# Altium schematic symbol library i2c_io_expander.SchLib: 79 symbols (part 3 of 3)
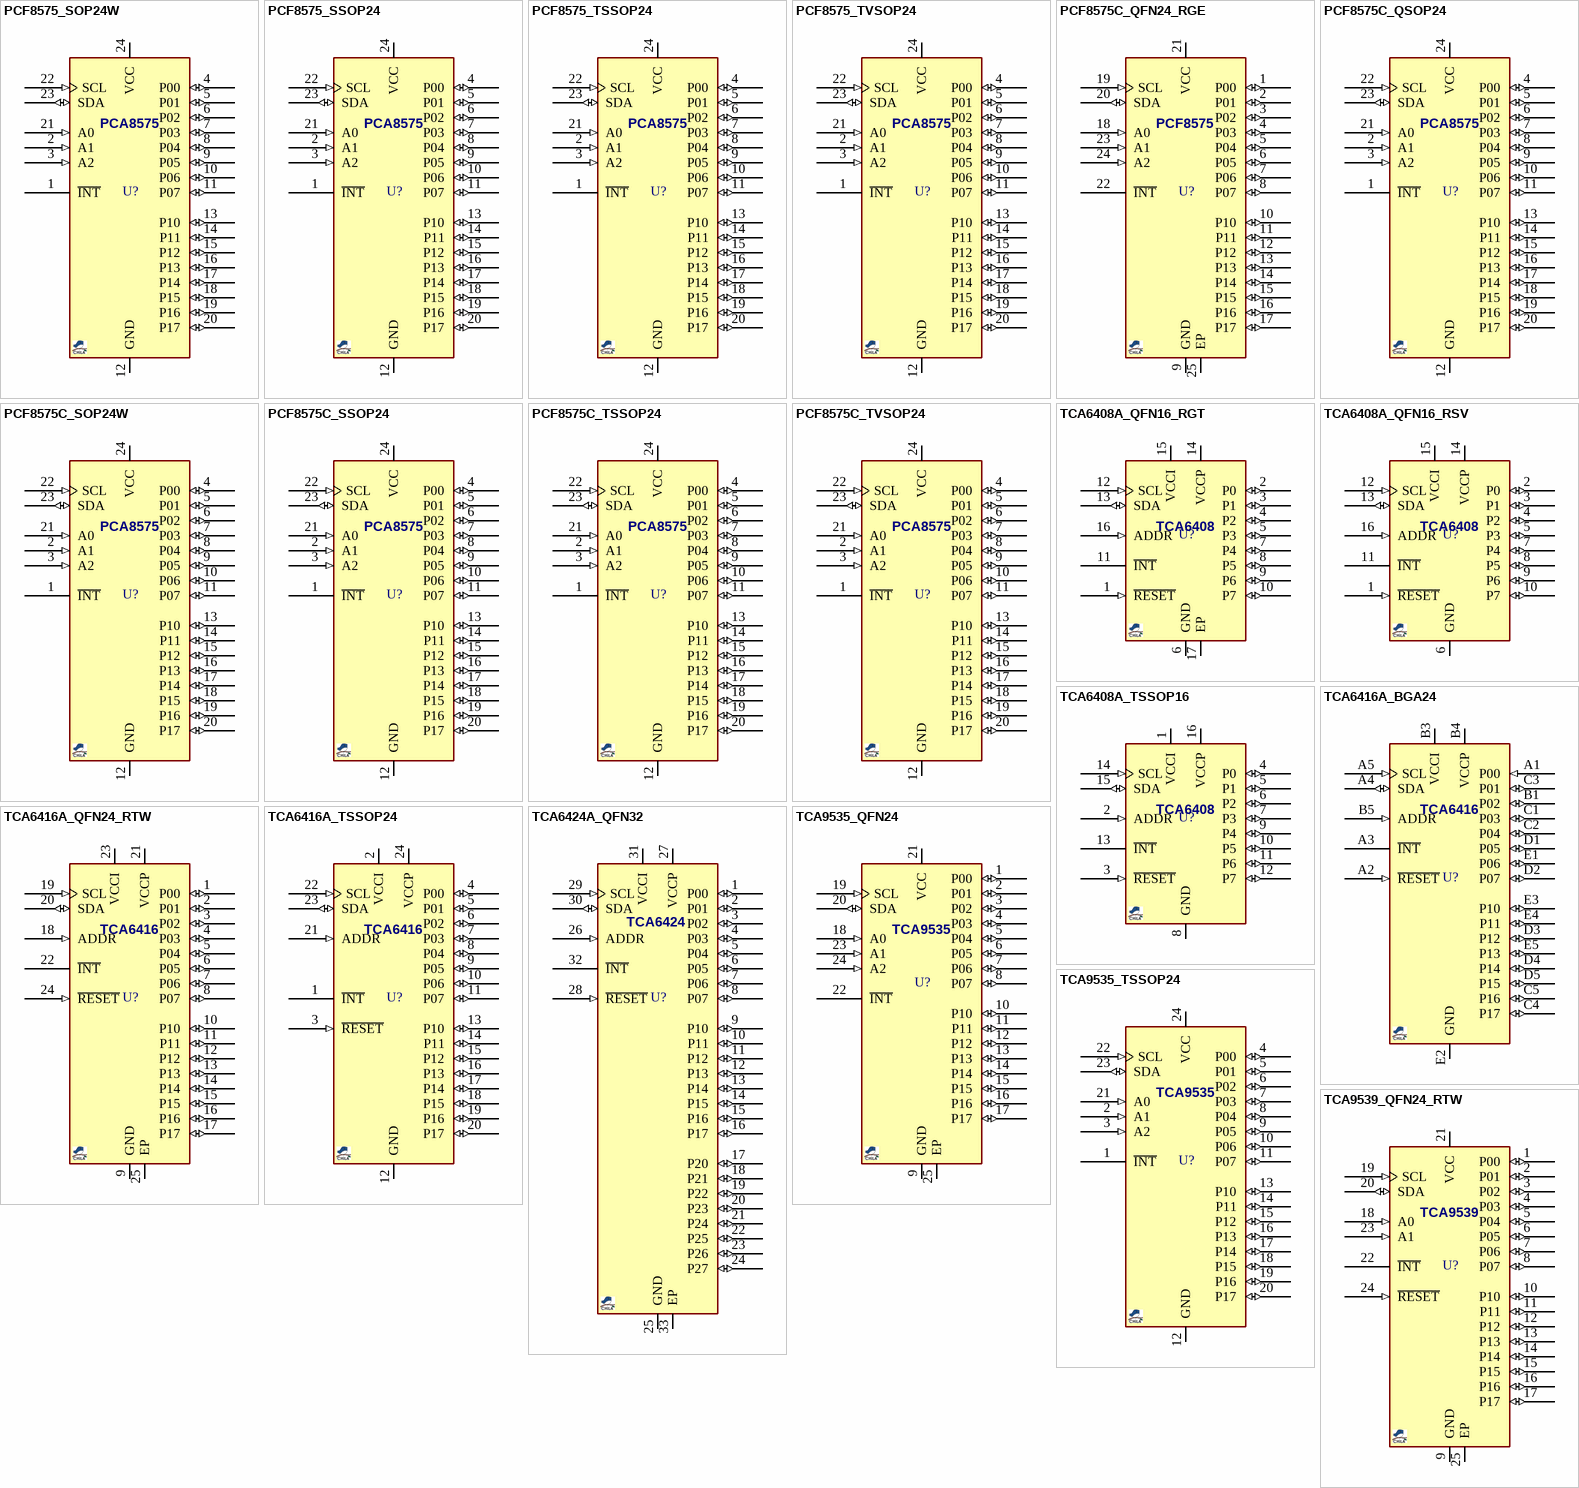
[diagram p5: symbols PCF8575_SOP24W to TCA9539_QFN24_RTW]

## TCA6408A_QFN16_RSV
designator U?, comment TCA6408  (value not drawn)
IC, I2C IO Expander, 8CH, 5V TOL, 400KHz; MANF: Texas Instruments; MANF_P#: TCA6408ARSV; PARAM2: 1.65~5.5VCC; PARAM: 8CH, 5V TOL, 400KHz, -40~85oC; VALUE: TCA6408
footprint QFN40_16_2618 (PUQFN-16 RSV 2.6X1.8mm, 0.4mm pitch)
pins: 1 ~{RESET} (in) "Active-low reset input. Connect to VCC  through a pullup resistor, if no active connection is used.", 2 P0 (io) "P-port input/output. (Push-pull design structure.) At power on, P0 is configured as an input.", 3 P1 (io) "P-port input/output. (Push-pull design structure.) At power on, P1 is configured as an input.", 4 P2 (io) "P-port input/output. (Push-pull design structure.) At power on, P2 is configured as an input.", 5 P3 (io) "P-port input/output. (Push-pull design structure.) At power on, P3 is configured as an input.", 6 GND (power) "Ground", 7 P4 (io) "P-port input/output. (Push-pull design structure.) At power on, P4 is configured as an input.", 8 P5 (io) "P-port input/output. (Push-pull design structure.) At power on, P5 is configured as an input.", 9 P6 (io) "P-port input/output. (Push-pull design structure.) At power on, P6 is configured as an input.", 10 P7 (io) "P-port input/output. (Push-pull design structure.) At power on, P7 is configured as an input.", 11 ~{INT} (oc) "Interrupt output. Connect to VCCI through a pullup resistor.", 12 SCL (in) "Serial clock bus. Connect to VCCI through a pullup resistor.", 13 SDA (io) "Serial data bus. Connect to VCCI through a pullup resistor.", 14 VCCP (power) "Supply voltage of TCA6408A for P port", 15 VCCI (power) "Supply voltage of I2C bus. Connect directly to the VCCI of the external I2C master. Provides voltage leveltranslation", 16 ADDR (in) "Address input. Connect directly to VCCI or ground"

## TCA6408A_TSSOP16
designator U?, comment TCA6408  (value not drawn)
IC, I2C IO Expander, 8CH, 5V TOL, 400KHz; MANF: Texas Instruments; MANF_P#: TCA6408APW; PARAM2: 1.65~5.5VCC; PARAM: 8CH, 5V TOL, 400KHz, -40~85oC; VALUE: TCA6408
footprint SOG65_16 (PW TSSOP (TI), MO-153-AB (JEDEC), 16Lead, pitch: 0.65mm, 5x4.4x1.2mm)
pins: 1 VCCI (power) "Supply voltage of I2C bus. Connect directly to the VCCI of the external I2C master. Provides voltage leveltranslation", 2 ADDR (in) "Address input. Connect directly to VCCI or ground", 3 ~{RESET} (in) "Active-low reset input. Connect to VCC  through a pullup resistor, if no active connection is used.", 4 P0 (io) "P-port input/output. Push-pull design structure.", 5 P1 (io) "P-port input/output. Push-pull design structure.", 6 P2 (io) "P-port input/output. Push-pull design structure.", 7 P3 (io) "P-port input/output. Push-pull design structure.", 8 GND (power) "Ground", 9 P4 (io) "P-port input/output. Push-pull design structure.", 10 P5 (io) "P-port input/output. Push-pull design structure.", 11 P6 (io) "P-port input/output. Push-pull design structure.", 12 P7 (io) "P-port input/output. Push-pull design structure.", 13 ~{INT} (oc) "Interrupt output. Connect to VCC through a pullup resistor.", 14 SCL (in) "Serial clock bus. Connect to VCC through a pullup resistor.", 15 SDA (io) "Serial data bus. Connect to VCC through a pullup resistor.", 16 VCCP (power) "Supply voltage of TCA6408A for P port"

## TCA6416A_BGA24
designator U?, comment TCA6416  (value not drawn)
IC, I2C IO Expander, 16CH, 5V TOL, 400KHz; MANF: Texas Instruments; MANF_P#: TCA6416AZQS; PARAM2: 1.65~5.5VCC; PARAM: 16CH, 5V TOL, 400KHz, -40~85oC; VALUE: TCA6416
footprint BGA50_24_3X3 (BGA, 24-Leads, ZQS24, Body 3x3mm, Pitch 0.5mm)
pins: A1 P00 (in) "P-port input/output. (Push-pull design structure). At power-on, P00 is configured as an input.", A2 ~{RESET} (in) "Active-low reset input. Connect to VCCI through a pullup resistor, if no active connection is used.", A3 ~{INT} (oc) "Interrupt output. Connect to VCCl or Vccp through a pullup resistor.", A4 SDA (io) "Serial data bus. Connect to VCCI through a pullup resistor.", A5 SCL (in) "Serial clock bus. Connect to VCCI through a pullup resistor.", B1 P02 (io) "P-port input/output. (Push-pull design structure). At power-on, P02 is configured as an input.", B3 VCCI (power) "Supply voltage of I2C bus. Connect directly to the VCC of the external I2C master. Provides voltage leveltranslation", B4 VCCP (power) "Supply voltage of TCA6416A for P port", B5 ADDR (in) "Address input. Connect directly to VCCPor ground", C1 P03 (io) "P-port input/output. (Push-pull design structure). At power-on, P03 is configured as an input.", C2 P04 (io) "P-port input/output. (Push-pull design structure). At power-on, P04 is configured as an input.", C3 P01 (io) "P-port input/output. (Push-pull design structure). At power-on, P01 is configured as an input.", C4 P17 (io) "P-port input/output. (Push-pull design structure). At power-on, P17 is configured as an input.", C5 P16 (io) "P-port input/output. (Push-pull design structure). At power-on, P16 is configured as an input.", D1 P05 (io) "P-port input/output. (Push-pull design structure). At power-on, P05 is configured as an input.", D2 P07 (io) "P-port input/output. (Push-pull design structure). At power-on, P07 is configured as an input.", D3 P12 (io) "P-port input/output. (Push-pull design structure). At power-on, P12 is configured as an input.", D4 P14 (io) "P-port input/output. (Push-pull design structure). At power-on, P14 is configured as an input.", D5 P15 (io) "P-port input/output. (Push-pull design structure). At power-on, P15 is configured as an input.", E1 P06 (io) "P-port input/output. (Push-pull design structure). At power-on, P06 is configured as an input.", E2 GND (power) "Ground", E3 P10 (io) "P-port input/output. (Push-pull design structure). At power-on, P10 is configured as an input.", E4 P11 (io) "P-port input/output. (Push-pull design structure). At power-on, P11 is configured as an input.", E5 P13 (io) "P-port input/output. (Push-pull design structure). At power-on, P13 is configured as an input."

## TCA6416A_QFN24_RTW
designator U?, comment TCA6416  (value not drawn)
IC, I2C IO Expander, 16CH, 5V TOL, 400KHz; MANF: Texas Instruments; MANF_P#: TCA6416ARTW; PARAM2: 1.65~5.5VCC; PARAM: 16CH, 5V TOL, 400KHz, -40~85oC; PRICE: 1.5$; VALUE: TCA6416
footprint QFN50_24T (MO-220 (JEDEC), RGE S-PQFP-N24 (TI), 4X4mm, 0.5mm, HVQFN24)
pins: 1 P00 (io) "P-port input/output. (Push-pull design structure). At power-on, P00 is configured as an input.", 2 P01 (io) "P-port input/output. (Push-pull design structure). At power-on, P01 is configured as an input.", 3 P02 (io) "P-port input/output. (Push-pull design structure). At power-on, P02 is configured as an input.", 4 P03 (io) "P-port input/output. (Push-pull design structure). At power-on, P03 is configured as an input.", 5 P04 (io) "P-port input/output. (Push-pull design structure). At power-on, P04 is configured as an input.", 6 P05 (io) "P-port input/output. (Push-pull design structure). At power-on, P05 is configured as an input.", 7 P06 (io) "P-port input/output. (Push-pull design structure). At power-on, P06 is configured as an input.", 8 P07 (io) "P-port input/output. (Push-pull design structure). At power-on, P07 is configured as an input.", 9 GND (power) "Ground", 10 P10 (io) "P-port input/output. (Push-pull design structure). At power-on, P10 is configured as an input.", 11 P11 (io) "P-port input/output. (Push-pull design structure). At power-on, P11 is configured as an input.", 12 P12 (io) "P-port input/output. (Push-pull design structure). At power-on, P12 is configured as an input.", 13 P13 (io) "P-port input/output. (Push-pull design structure). At power-on, P13 is configured as an input.", 14 P14 (io) "P-port input/output. (Push-pull design structure). At power-on, P14 is configured as an input.", 15 P15 (io) "P-port input/output. (Push-pull design structure). At power-on, P15 is configured as an input.", 16 P16 (io) "P-port input/output. (Push-pull design structure). At power-on, P16 is configured as an input.", 17 P17 (io) "P-port input/output. (Push-pull design structure). At power-on, P17 is configured as an input.", 18 ADDR (in) "Address input. Connect directly to VCCP or ground", 19 SCL (in) "Serial clock bus. Connect to VCCI through a pullup resistor.", 20 SDA (io) "Serial data bus. Connect to VCCI through a pullup resistor.", 21 VCCP (power) "Supply voltage of TCA6416A for P port", 22 ~{INT} (oc) "Interrupt output. Connect to VCCl or Vccp through a pullup resistor.", 23 VCCI (power) "Supply voltage of I2C bus. Connect directly to the VCC of the external I2C master. Provides voltage leveltranslation", 24 ~{RESET} (in) "Active-low reset input. Connect to VCCI through a pullup resistor, if no active connection is used.", 25 EP (power)

## TCA6416A_TSSOP24
designator U?, comment TCA6416  (value not drawn)
IC, I2C IO Expander, 16CH, 5V TOL, 400KHz; MANF: Texas Instruments; MANF_P#: TCA6416APW; PARAM2: 1.65~5.5VCC; PARAM: 16CH, 5V TOL, 400KHz, -40~85oC; VALUE: TCA6416
footprint SOG65_24 (PW TSSOP (TI), MO-153-AD (JEDEC), 24Lead, pitch: 0.65mm, 8x4.4x1.2mm)
pins: 1 ~{INT} (oc) "Interrupt output. Connect to VCC through a pullup resistor.", 2 VCCI (power) "Supply voltage of I2C bus. Connect directly to the VCC of the external I2C master. Provides voltage leveltranslation", 3 ~{RESET} (in) "Active-low reset input. Connect to VCCI through a pullup resistor, if no active connection is used.", 4 P00 (io) "P-port input/output. (Push-pull design structure). At power-on, P00 is configured as an input.", 5 P01 (io) "P-port input/output. (Push-pull design structure). At power-on, P01 is configured as an input.", 6 P02 (io) "P-port input/output. (Push-pull design structure). At power-on, P02 is configured as an input.", 7 P03 (io) "P-port input/output. (Push-pull design structure). At power-on, P03 is configured as an input.", 8 P04 (io) "P-port input/output. (Push-pull design structure). At power-on, P04 is configured as an input.", 9 P05 (io) "P-port input/output. (Push-pull design structure). At power-on, P05 is configured as an input.", 10 P06 (io) "P-port input/output. (Push-pull design structure). At power-on, P06 is configured as an input.", 11 P07 (io) "P-port input/output. (Push-pull design structure). At power-on, P07 is configured as an input.", 12 GND (power) "Ground", 13 P10 (io) "P-port input/output. (Push-pull design structure). At power-on, P10 is configured as an input.", 14 P11 (io) "P-port input/output. (Push-pull design structure). At power-on, P11 is configured as an input.", 15 P12 (io) "P-port input/output. (Push-pull design structure). At power-on, P12 is configured as an input.", 16 P13 (io) "P-port input/output. (Push-pull design structure). At power-on, P13 is configured as an input.", 17 P14 (io) "P-port input/output. (Push-pull design structure). At power-on, P14 is configured as an input.", 18 P15 (io) "P-port input/output. (Push-pull design structure). At power-on, P15 is configured as an input.", 19 P16 (io) "P-port input/output. (Push-pull design structure). At power-on, P16 is configured as an input.", 20 P17 (io) "P-port input/output. (Push-pull design structure). At power-on, P17 is configured as an input.", 21 ADDR (in) "Address input. Connect directly to VCC or ground.", 22 SCL (in) "Serial clock bus. Connect to VCC through a pullup resistor.", 23 SDA (io) "Serial data bus. Connect to VCC through a pullup resistor.", 24 VCCP (power) "Supply voltage of TCA6416A for P port"

## TCA6424A_QFN32
designator U?, comment TCA6424  (value not drawn)
IC, I2C IO Expander, 24CH, 5V TOL, 400KHz; MANF: Texas Instruments; MANF_P#: TCA6424ARGJ; PARAM2: 1.65~5.5VCC; PARAM: 24CH, 5V TOL, 400KHz, -40~85oC; VALUE: TCA6424
footprint QFN50_32T (QFN, 32, 5X5mm, 0.5mm)
pins: 1 P00 (io) "P-port input/output (push-pull design structure). At power on, P00 is configured as an input.", 2 P01 (io) "P-port input/output (push-pull design structure). At power on, P01 is configured as an input.", 3 P02 (io) "P-port input/output (push-pull design structure). At power on, P02 is configured as an input.", 4 P03 (io) "P-port input/output (push-pull design structure). At power on, P03 is configured as an input.", 5 P04 (io) "P-port input/output (push-pull design structure). At power on, P04 is configured as an input.", 6 P05 (io) "P-port input/output (push-pull design structure). At power on, P05 is configured as an input.", 7 P06 (io) "P-port input/output (push-pull design structure). At power on, P06 is configured as an input.", 8 P07 (io) "P-port input/output (push-pull design structure). At power on, P07 is configured as an input.", 9 P10 (io) "P-port input/output (push-pull design structure). At power on, P10 is configured as an input.", 10 P11 (io) "P-port input/output (push-pull design structure). At power on, P11 is configured as an input.", 11 P12 (io) "P-port input/output (push-pull design structure). At power on, P12 is configured as an input.", 12 P13 (io) "P-port input/output (push-pull design structure). At power on, P13 is configured as an input.", 13 P14 (io) "P-port input/output (push-pull design structure). At power on, P14 is configured as an input.", 14 P15 (io) "P-port input/output (push-pull design structure). At power on, P15 is configured as an input.", 15 P16 (io) "P-port input/output (push-pull design structure). At power on, P16 is configured as an input.", 16 P17 (io) "P-port input/output (push-pull design structure). At power on, P17 is configured as an input.", 17 P20 (io) "P-port input/output (push-pull design structure). At power on, P20 is configured as an input.", 18 P21 (io) "P-port input/output (push-pull design structure). At power on, P21 is configured as an input.", 19 P22 (io) "P-port input/output (push-pull design structure). At power on, P22 is configured as an input.", 20 P23 (io) "P-port input/output (push-pull design structure). At power on, P23 is configured as an input.", 21 P24 (io) "P-port input/output (push-pull design structure). At power on, P24 is configured as an input.", 22 P25 (io) "P-port input/output (push-pull design structure). At power on, P25 is configured as an input.", 23 P26 (io) "P-port input/output (push-pull design structure). At power on, P26 is configured as an input.", 24 P27 (io) "P-port input/output (push-pull design structure). At power on, P27 is configured as an input.", 25 GND (power) "Ground", 26 ADDR (in) "Address input. Connect directly to VCCP or ground.", 27 VCCP (power) "Supply voltage of TCA6424A for P port", 28 ~{RESET} (in) "Active-low reset input. Connect to VCCI  through a pullup resistor, if no active connection is used.", 29 SCL (in) "Serial clock bus. Connect to VCCI through a pullup resistor.", 30 SDA (io) "Serial data bus. Connect to VCCI through a pullup resistor.", 31 VCCI (power) "Supply voltage of I2C bus. Connect directly to the VCC of the external I2C master. Provides voltage-level translation.", 32 ~{INT} (oc) "Interrupt output. Connect to VCCI through a pullup resistor.", 33 EP "Exposed thermal pad"

## TCA9535_QFN24
designator U?, comment TCA9535  (value not drawn)
IC, I2C IO Expander, 16CH, 5V TOL, 400KHz; MANF: Texas Instruments; MANF_P#: TCA9535RTW; PARAM2: 1.65~5.5VCC; PARAM: 16CH, 5V TOL, 400KHz, -40~85oC; VALUE: TCA9535
footprint QFN50_24T (MO-220 (JEDEC), RGE S-PQFP-N24 (TI), 4X4mm, 0.5mm, HVQFN24)
pins: 1 P00 (io) "P-port input/output. Push-pull design structure.", 2 P01 (io) "P-port input/output. Push-pull design structure.", 3 P02 (io) "P-port input/output. Push-pull design structure.", 4 P03 (io) "P-port input/output. Push-pull design structure.", 5 P04 (io) "P-port input/output. Push-pull design structure.", 6 P05 (io) "P-port input/output. Push-pull design structure.", 7 P06 (io) "P-port input/output. Push-pull design structure.", 8 P07 (io) "P-port input/output. Push-pull design structure.", 9 GND (power) "Ground", 10 P10 (io) "P-port input/output. Push-pull design structure.", 11 P11 (io) "P-port input/output. Push-pull design structure.", 12 P12 (io) "P-port input/output. Push-pull design structure.", 13 P13 (io) "P-port input/output. Push-pull design structure.", 14 P14 (io) "P-port input/output. Push-pull design structure.", 15 P15 (io) "P-port input/output. Push-pull design structure.", 16 P16 (io) "P-port input/output. Push-pull design structure.", 17 P17 (io) "P-port input/output. Push-pull design structure.", 18 A0 (in) "Address input. Connect directly to VCC or ground.", 19 SCL (in) "Serial clock bus. Connect to VCC through a pullup resistor.", 20 SDA (io) "Serial data bus. Connect to VCC through a pullup resistor.", 21 VCC (power) "Supply voltage", 22 ~{INT} (oc) "Interrupt output. Connect to VCC through a pullup resistor.", 23 A1 (in) "Address input. Connect directly to VCC or ground.", 24 A2 (in) "Active-low reset input. Connect to VCC  through a pullup resistor, if no active connection is used.", 25 EP "Exposed thermal pad"

## TCA9535_TSSOP24
designator U?, comment TCA9535  (value not drawn)
IC, I2C IO Expander, 16CH, 5V TOL, 400KHz; MANF: Texas Instruments; MANF_P#: TCA9535PW; PARAM2: 1.65~5.5VCC; PARAM: 16CH, 5V TOL, 400KHz, -40~85oC; VALUE: TCA9535
footprint SOG65_24 (PW TSSOP (TI), MO-153-AD (JEDEC), 24Lead, pitch: 0.65mm, 8x4.4x1.2mm)
pins: 1 ~{INT} (oc) "Interrupt output. Connect to VCC through a pullup resistor.", 2 A1 (in) "Address input. Connect directly to VCC or ground.", 3 A2 (in) "Active-low reset input. Connect to VCC  through a pullup resistor, if no active connection is used.", 4 P00 (io) "P-port input/output. Push-pull design structure.", 5 P01 (io) "P-port input/output. Push-pull design structure.", 6 P02 (io) "P-port input/output. Push-pull design structure.", 7 P03 (io) "P-port input/output. Push-pull design structure.", 8 P04 (io) "P-port input/output. Push-pull design structure.", 9 P05 (io) "P-port input/output. Push-pull design structure.", 10 P06 (io) "P-port input/output. Push-pull design structure.", 11 P07 (io) "P-port input/output. Push-pull design structure.", 12 GND (power) "Ground", 13 P10 (io) "P-port input/output. Push-pull design structure.", 14 P11 (io) "P-port input/output. Push-pull design structure.", 15 P12 (io) "P-port input/output. Push-pull design structure.", 16 P13 (io) "P-port input/output. Push-pull design structure.", 17 P14 (io) "P-port input/output. Push-pull design structure.", 18 P15 (io) "P-port input/output. Push-pull design structure.", 19 P16 (io) "P-port input/output. Push-pull design structure.", 20 P17 (io) "P-port input/output. Push-pull design structure.", 21 A0 (in) "Address input. Connect directly to VCC or ground.", 22 SCL (in) "Serial clock bus. Connect to VCC through a pullup resistor.", 23 SDA (io) "Serial data bus. Connect to VCC through a pullup resistor.", 24 VCC (power) "Supply voltage"

## TCA9539_QFN24_RTW
designator U?, comment TCA9539  (value not drawn)
IC, I2C IO Expander, 16CH, 5V TOL, 400KHz; MANF: Texas Instruments; MANF_P#: TCA9539RTW; PARAM2: 1.65~5.5VCC; PARAM: 16CH, 5V TOL, 400KHz, -40~85oC; VALUE: TCA9539
footprint QFN50_24T (MO-220 (JEDEC), RGE S-PQFP-N24 (TI), 4X4mm, 0.5mm, HVQFN24)
pins: 1 P00 (io) "P-port input/output. Push-pull design structure.", 2 P01 (io) "P-port input/output. Push-pull design structure.", 3 P02 (io) "P-port input/output. Push-pull design structure.", 4 P03 (io) "P-port input/output. Push-pull design structure.", 5 P04 (io) "P-port input/output. Push-pull design structure.", 6 P05 (io) "P-port input/output. Push-pull design structure.", 7 P06 (io) "P-port input/output. Push-pull design structure.", 8 P07 (io) "P-port input/output. Push-pull design structure.", 9 GND (power) "Ground", 10 P10 (io) "P-port input/output. Push-pull design structure.", 11 P11 (io) "P-port input/output. Push-pull design structure.", 12 P12 (io) "P-port input/output. Push-pull design structure.", 13 P13 (io) "P-port input/output. Push-pull design structure.", 14 P14 (io) "P-port input/output. Push-pull design structure.", 15 P15 (io) "P-port input/output. Push-pull design structure.", 16 P16 (io) "P-port input/output. Push-pull design structure.", 17 P17 (io) "P-port input/output. Push-pull design structure.", 18 A0 (in) "Address input. Connect directly to VCC or ground.", 19 SCL (in) "Serial clock bus. Connect to VCC through a pullup resistor.", 20 SDA (io) "Serial data bus. Connect to VCC through a pullup resistor.", 21 VCC (power) "Supply voltage", 22 ~{INT} (oc) "Interrupt output. Connect to VCC through a pullup resistor.", 23 A1 (in) "Address input. Connect directly to VCC or ground.", 24 ~{RESET} (in) "Active-low reset input. Connect to VCC  through a pullup resistor, if no active connection is used.", 25 EP "Exposed thermal pad"

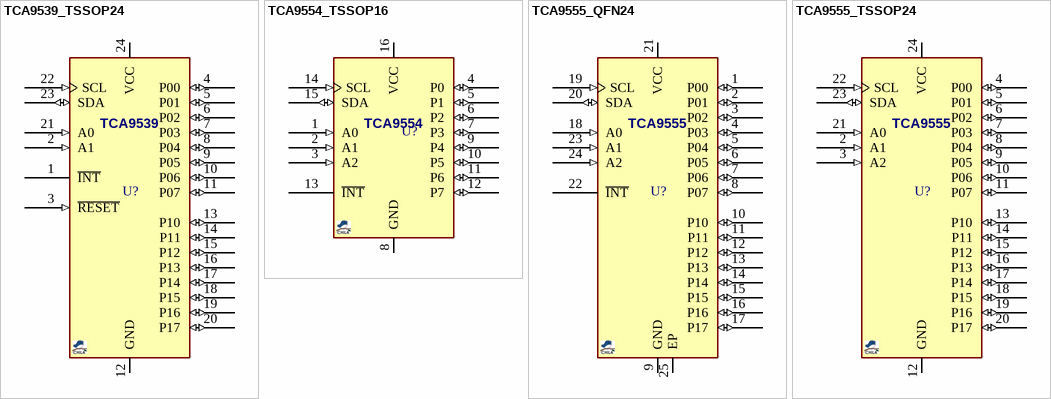
[diagram p3: symbols TCA9539_TSSOP24 to TCA9555_TSSOP24]

## TCA9539_TSSOP24
designator U?, comment TCA9539  (value not drawn)
IC, I2C IO Expander, 16CH, 5V TOL, 400KHz; MANF: Texas Instruments; MANF_P#: TCA9539PW; PARAM2: 1.65~5.5VCC; PARAM: 16CH, 5V TOL, 400KHz, -40~85oC; VALUE: TCA9539
footprint SOG65_24 (PW TSSOP (TI), MO-153-AD (JEDEC), 24Lead, pitch: 0.65mm, 8x4.4x1.2mm)
pins: 1 ~{INT} (oc) "Interrupt output. Connect to VCC through a pullup resistor.", 2 A1 (in) "Address input. Connect directly to VCC or ground.", 3 ~{RESET} (in) "Active-low reset input. Connect to VCC  through a pullup resistor, if no active connection is used.", 4 P00 (io) "P-port input/output. Push-pull design structure.", 5 P01 (io) "P-port input/output. Push-pull design structure.", 6 P02 (io) "P-port input/output. Push-pull design structure.", 7 P03 (io) "P-port input/output. Push-pull design structure.", 8 P04 (io) "P-port input/output. Push-pull design structure.", 9 P05 (io) "P-port input/output. Push-pull design structure.", 10 P06 (io) "P-port input/output. Push-pull design structure.", 11 P07 (io) "P-port input/output. Push-pull design structure.", 12 GND (power) "Ground", 13 P10 (io) "P-port input/output. Push-pull design structure.", 14 P11 (io) "P-port input/output. Push-pull design structure.", 15 P12 (io) "P-port input/output. Push-pull design structure.", 16 P13 (io) "P-port input/output. Push-pull design structure.", 17 P14 (io) "P-port input/output. Push-pull design structure.", 18 P15 (io) "P-port input/output. Push-pull design structure.", 19 P16 (io) "P-port input/output. Push-pull design structure.", 20 P17 (io) "P-port input/output. Push-pull design structure.", 21 A0 (in) "Address input. Connect directly to VCC or ground.", 22 SCL (in) "Serial clock bus. Connect to VCC through a pullup resistor.", 23 SDA (io) "Serial data bus. Connect to VCC through a pullup resistor.", 24 VCC (power) "Supply voltage"

## TCA9554_TSSOP16
designator U?, comment TCA9554  (value not drawn)
IC, I2C IO Expander, 8CH, 5V TOL, 400KHz; MANF: Texas Instruments; MANF_P#: TCA9554PW; PARAM2: 1.65~5.5VCC; PARAM: 8CH, 5V TOL, 400KHz, -40~85oC; VALUE: TCA9554
footprint SOG65_16 (PW TSSOP (TI), MO-153-AB (JEDEC), 16Lead, pitch: 0.65mm, 5x4.4x1.2mm)
pins: 1 A0 (in) "Address input. Connect directly to VCC or ground.", 2 A1 (in) "Address input. Connect directly to VCC or ground.", 3 A2 (in) "Address input. Connect directly to VCC or ground.", 4 P0 (io) "P-port input/output. Push-pull design structure.", 5 P1 (io) "P-port input/output. Push-pull design structure.", 6 P2 (io) "P-port input/output. Push-pull design structure.", 7 P3 (io) "P-port input/output. Push-pull design structure.", 8 GND (power) "Ground", 9 P4 (io) "P-port input/output. Push-pull design structure.", 10 P5 (io) "P-port input/output. Push-pull design structure.", 11 P6 (io) "P-port input/output. Push-pull design structure.", 12 P7 (io) "P-port input/output. Push-pull design structure.", 13 ~{INT} (oc) "Interrupt output. Connect to VCC through a pullup resistor.", 14 SCL (in) "Serial clock bus. Connect to VCC through a pullup resistor.", 15 SDA (io) "Serial data bus. Connect to VCC through a pullup resistor.", 16 VCC (power) "Supply voltage"

## TCA9555_QFN24
designator U?, comment TCA9555  (value not drawn)
IC, I2C IO Expander, 8CH, 5V TOL, 400KHz; MANF: Texas Instruments; MANF_P#: TCA9555RTW; PARAM2: 1.65~5.5VCC; PARAM: 16CH, 5V TOL, 400KHz, -40~85oC; VALUE: TCA9555
footprint QFN50_24T (MO-220 (JEDEC), RGE S-PQFP-N24 (TI), 4X4mm, 0.5mm, HVQFN24)
pins: 1 P00 (io) "P-port input/output. Push-pull design structure.", 2 P01 (io) "P-port input/output. Push-pull design structure.", 3 P02 (io) "P-port input/output. Push-pull design structure.", 4 P03 (io) "P-port input/output. Push-pull design structure.", 5 P04 (io) "P-port input/output. Push-pull design structure.", 6 P05 (io) "P-port input/output. Push-pull design structure.", 7 P06 (io) "P-port input/output. Push-pull design structure.", 8 P07 (io) "P-port input/output. Push-pull design structure.", 9 GND (power) "Ground", 10 P10 (io) "P-port input/output. Push-pull design structure.", 11 P11 (io) "P-port input/output. Push-pull design structure.", 12 P12 (io) "P-port input/output. Push-pull design structure.", 13 P13 (io) "P-port input/output. Push-pull design structure.", 14 P14 (io) "P-port input/output. Push-pull design structure.", 15 P15 (io) "P-port input/output. Push-pull design structure.", 16 P16 (io) "P-port input/output. Push-pull design structure.", 17 P17 (io) "P-port input/output. Push-pull design structure.", 18 A0 (in) "Address input 0. Connect directly to VCC or ground.", 19 SCL (in) "Serial clock bus. Connect to VCC through a pullup resistor.", 20 SDA (io) "Serial data bus. Connect to VCC through a pullup resistor.", 21 VCC (power) "Supply voltage", 22 ~{INT} (oc) "Interrupt output. Connect to VCC through a pullup resistor.", 23 A1 (in) "Address input 1. Connect directly to VCC or ground.", 24 A2 (in) "Address input 2. Connect directly to VCC or ground.", 25 EP "Exposed thermal pad"

## TCA9555_TSSOP24
designator U?, comment TCA9555  (value not drawn)
IC, I2C IO Expander, 8CH, 5V TOL, 400KHz; MANF: Texas Instruments; MANF_P#: TCA9555PW; PARAM2: 1.65~5.5VCC; PARAM: 16CH, 5V TOL, 400KHz, -40~85oC; VALUE: TCA9555
footprint SOG65_24 (PW TSSOP (TI), MO-153-AD (JEDEC), 24Lead, pitch: 0.65mm, 8x4.4x1.2mm)
pins: 2 A1 (in) "Address input 1. Connect directly to VCC or ground.", 3 A2 (in) "Address input 2. Connect directly to VCC or ground.", 4 P00 (io) "P-port input/output. Push-pull design structure.", 5 P01 (io) "P-port input/output. Push-pull design structure.", 6 P02 (io) "P-port input/output. Push-pull design structure.", 7 P03 (io) "P-port input/output. Push-pull design structure.", 8 P04 (io) "P-port input/output. Push-pull design structure.", 9 P05 (io) "P-port input/output. Push-pull design structure.", 10 P06 (io) "P-port input/output. Push-pull design structure.", 11 P07 (io) "P-port input/output. Push-pull design structure.", 12 GND (power) "Ground", 13 P10 (io) "P-port input/output. Push-pull design structure.", 14 P11 (io) "P-port input/output. Push-pull design structure.", 15 P12 (io) "P-port input/output. Push-pull design structure.", 16 P13 (io) "P-port input/output. Push-pull design structure.", 17 P14 (io) "P-port input/output. Push-pull design structure.", 18 P15 (io) "P-port input/output. Push-pull design structure.", 19 P16 (io) "P-port input/output. Push-pull design structure.", 20 P17 (io) "P-port input/output. Push-pull design structure.", 21 A0 (in) "Address input 0. Connect directly to VCC or ground.", 22 SCL (in) "Serial clock bus. Connect to VCC through a pullup resistor.", 23 SDA (io) "Serial data bus. Connect to VCC through a pullup resistor.", 24 VCC (power) "Supply voltage"